# Altium footprint library USB_Vertical.PcbLib: 1 footprints
Each footprint in its own frame and in the unit in brackets; x right, y up, seen from the top. Pads: shape width x height; smd on the part's side, far side on the other; paste and mask are expansions set on the pad; w line width, h text height; cw(c..) or ccw(c..) is an arc to the next point about the centre after c.
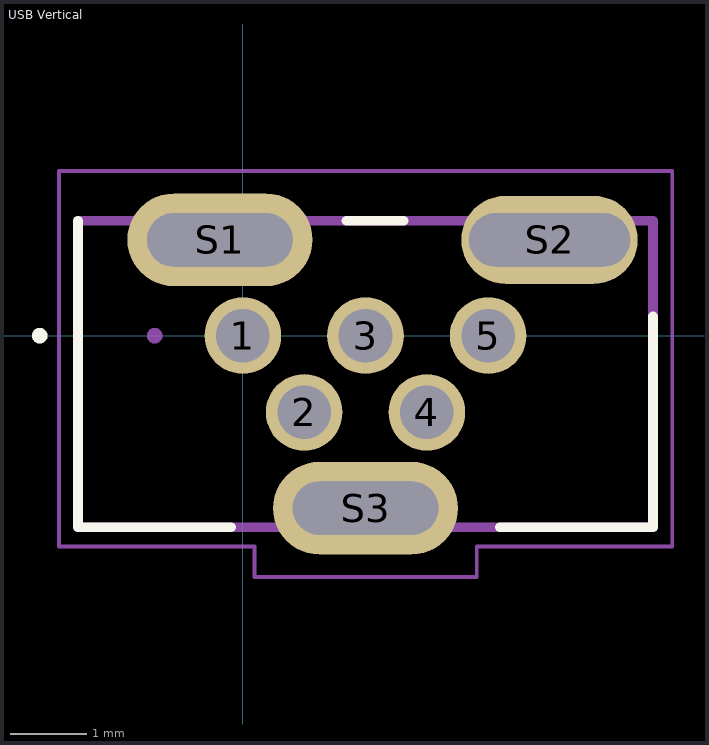
[diagram p0: the footprint, top view; thin cyan lines are the x and y axes]

## USB Vertical [mm]
pads (8):
  round 1 hole 0.7: 1(0,0) 2(0.8,-1) 3(1.6,0) 4(2.4,-1) 5(3.2,0)
  oval 2.416x1.208 hole 0.7 slot 1.9 at 0 deg: S1(-0.3,1.25) S3(1.6,-2.25)
  oval 2.3x1.15 hole 0.7 slot 2.1 at 0 deg: S2(4,1.25)
Top Overlay:
  circle w0.102: c-2.65,0 r0.051
  lines w0.127: -2.15,1.5 -2.15,-2.5 -0.15,-2.5 ; 1.35,1.5 2.1,1.5 ; 3.35,-2.5 5.35,-2.5 5.35,0.25
Mechanical 13:
  circle w0.102: c-1.15,0 r0.051
  lines w0.127: -2.15,-2.5 5.35,-2.5 5.35,1.5 -2.15,1.5 -2.15,-2.5
Mechanical 15:
  lines w0.05: -2.4,-2.75 0.15,-2.75 0.15,-3.15 3.05,-3.15 3.05,-2.75 5.6,-2.75 5.6,2.15 -2.4,2.15 -2.4,-2.75
3D body "1734753-1.stp": height 9, standoff -2.3, extent -2.199,-2.458 5.501,1.632